# Altium integrated library 22057065.IntLib: 1 symbol
Pins are listed as number, name and electrical type; pins without a type are passive.

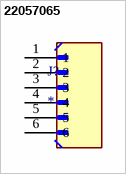
[diagram p0: symbol 22057065]

## 22057065
designator J?
Conn Shrouded Header (4 Sides) HDR 6 POS 2.5mm Solder RA Side Entry Thru-Hole SPOXâ„¢ Bag; MF: Molex; MP: 22057065; SnapEDA_Link: https://www.snapeda.com/parts/22057065/Molex/view-part/?ref=snap; Package: None; Value: *; Check_prices: https://www.snapeda.com/parts/22057065/Molex/view-part/?ref=eda
footprint MOLEX_22057065
pins: 1, 2, 3, 4, 5, 6